# Altium footprint library SOT-23-5.PcbLib: 1 footprints
Each footprint in its own frame and in the unit in brackets; x right, y up, seen from the top. Pads: shape width x height; smd on the part's side, far side on the other; paste and mask are expansions set on the pad; w line width, h text height; cw(c..) or ccw(c..) is an arc to the next point about the centre after c.
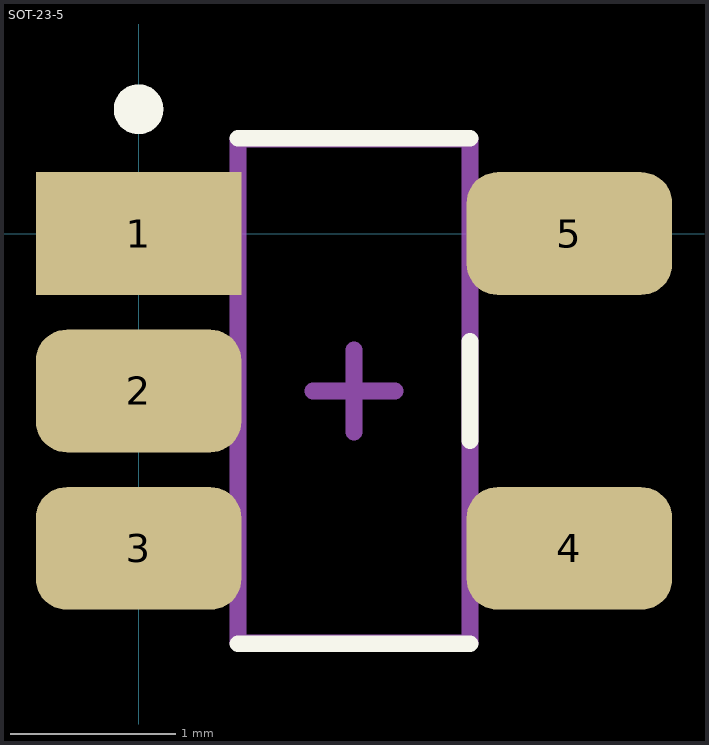
[diagram p0: the footprint, top view; thin cyan lines are the x and y axes]

## SOT-23-5 [mm]
pads (5):
  rect 1.24x0.74 smd paste+0 mask+0.051: 1(0,0)
  rrect50% 1.24x0.74 smd paste+0 mask+0.051: 2(0,-0.95) 3(0,-1.9) 4(2.6,-1.9) 5(2.6,0)
Top Overlay:
  circle w0.15: c0,0.75 r0.075
  lines w0.1: 0.6,-2.475 2,-2.475 ; 0.6,0.575 2,0.575 ; 2,-1.25 2,-0.65
Mechanical 13:
  lines w0.1: 0.6,-2.47 2,-2.47 2,0.57 0.6,0.57 0.6,-2.47
Mechanical 15:
  lines w0.1: 1.05,-0.95 1.3,-0.95 ; 1.3,-1.2 1.3,-0.95 ; 1.3,-0.7 1.3,-0.95 ; 1.55,-0.95 1.3,-0.95
3D body "SOT-23-5.stp": height 1, standoff 0, extent 0.1,-2.4 2.5,0.5